# Altium footprint library inductor.PcbLib: 6 footprints
Each footprint in its own frame and in the unit in brackets; x right, y up, seen from the top. Pads: shape width x height; smd on the part's side, far side on the other; paste and mask are expansions set on the pad; w line width, h text height; cw(c..) or ccw(c..) is an arc to the next point about the centre after c.
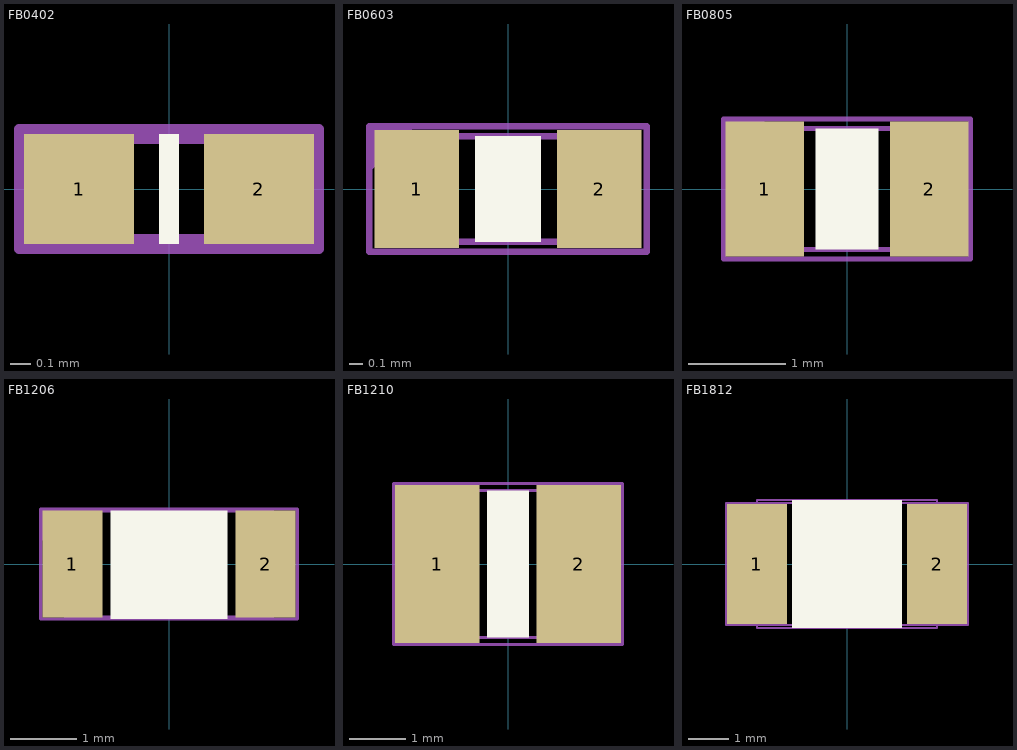
[diagram p0: the footprints below, top view; thin cyan lines are the x and y axes]

## FB0402 [mm]
pads (2):
  rect 0.55x0.55 smd: 1(-0.45,0) 2(0.45,0)
Top Overlay:
  rectangle: -0.05,-0.275 0.05,0.275
Top 3D Body:
  lines w0.05: -0.5,-0.25 -0.5,0.25 0.5,0.25 0.5,-0.25 -0.5,-0.25
Top Courtyard:
  region: -0.75,0.3 -0.45,0.3 -0.75,0
  lines w0.05: -0.75,-0.3 -0.75,0.3 0.75,0.3 0.75,-0.3 -0.75,-0.3
Top Designator:
  text ".Designator" at -0.675,-0.15 h0.44
3D body: height 0.65, standoff 0, extent -0.5,-0.25 -0.25,0.25
3D body: height 0.65, standoff 0, extent 0.25,-0.25 0.5,0.25
3D body: height 0.65, standoff 0, extent -0.25,-0.25 0.25,0.25

## FB0603 [mm]
pads (2):
  rect 0.64x0.89 smd: 1(-0.69,0) 2(0.69,0)
Top Overlay:
  rectangle: -0.25,-0.4 0.25,0.4
Top 3D Body:
  lines w0.05: -0.8,-0.4 0.8,-0.4 0.8,0.4 -0.8,0.4 -0.8,-0.4
Top Courtyard:
  region: -1.05,0.475 -0.7,0.475 -1.05,0.125
  lines w0.05: -1.05,-0.475 1.05,-0.475 1.05,0.475 -1.05,0.475 -1.05,-0.475
Top Designator:
  text ".Designator" at -0.9,-0.175 h0.51
3D body: height 0.95, standoff 0, extent -0.5,-0.4 0.5,0.4
3D body: height 0.95, standoff 0, extent 0.5,-0.4 0.8,0.4
3D body: height 0.95, standoff 0, extent -0.8,-0.4 -0.5,0.4

## FB0805 [mm]
pads (2):
  rect 0.81x1.4 smd: 1(-0.85,0) 2(0.85,0)
Top Overlay:
  rectangle: -0.325,-0.625 0.325,0.625
Top 3D Body:
  lines w0.05: -1,-0.625 -1,0.625 1,0.625 1,-0.625 -1,-0.625
Top Courtyard:
  region: -1.275,0.725 -0.825,0.725 -1.275,0.275
  lines w0.05: -1.275,-0.725 -1.275,0.725 1.275,0.725 1.275,-0.725 -1.275,-0.725
Top Designator:
  text ".Designator" at -1.125,-0.225 h0.65
3D body: height 1.1, standoff 0, extent -1,-0.625 -0.6,0.625
3D body: height 1.1, standoff 0, extent 0.6,-0.625 1,0.625
3D body: height 1.1, standoff 0, extent -0.6,-0.625 0.6,0.625

## FB1206 [mm]
pads (2):
  rect 0.9x1.6 smd: 1(-1.45,0) 2(1.45,0)
Top Overlay:
  rectangle: -0.875,-0.825 0.875,0.8
Top 3D Body:
  lines w0.05: -1.55,-0.8 -1.55,0.8 1.55,0.8 1.55,-0.8 -1.55,-0.8
Top Courtyard:
  region: -1.925,0.825 -1.425,0.825 -1.925,0.325
  lines w0.05: -1.925,-0.825 -1.925,0.825 1.925,0.825 1.925,-0.825 -1.925,-0.825
Top Designator:
  text ".Designator" at -1.75,-0.25 h0.72
3D body: height 1.3, standoff 0, extent -1.55,-0.8 -1.1,0.8
3D body: height 1.3, standoff 0, extent 1.1,-0.8 1.55,0.8
3D body: height 1.3, standoff 0, extent -1.1,-0.8 1.1,0.8

## FB1210 [mm]
pads (2):
  rect 1.5x2.8 smd: 1(-1.25,0) 2(1.25,0)
Top Overlay:
  rectangle: -0.375,-1.3 0.375,1.3
Top 3D Body:
  lines w0.05: -1.55,-1.3 1.55,-1.3 1.55,1.3 -1.55,1.3 -1.55,-1.3
Top Courtyard:
  region: -2.025,1.425 -1.2,1.425 -2.025,0.6
  lines w0.05: -2.025,-1.425 2.025,-1.425 2.025,1.425 -2.025,1.425 -2.025,-1.425
Top Designator:
  text ".Designator" at -1.775,-0.425 h1.2
3D body: height 1.5, standoff 0, extent -1.05,-1.3 1.05,1.3
3D body: height 1.5, standoff 0, extent 1.05,-1.3 1.55,1.3
3D body: height 1.5, standoff 0, extent -1.55,-1.3 -1.05,1.3

## FB1812 [mm]
pads (2):
  rect 1.5x3 smd: 1(-2.25,0) 2(2.25,0)
Top Overlay:
  rectangle: -1.375,-1.6 1.375,1.6
Top 3D Body:
  lines w0.05: -2.25,-1.6 2.25,-1.6 2.25,1.6 -2.25,1.6 -2.25,-1.6
Top Courtyard:
  lines w0.05: -3.025,-1.525 3.025,-1.525 3.025,1.525 -3.025,1.525 -3.025,-1.525
Top Designator:
  text ".Designator" at -2.775,-0.4 h1.2
3D body: height 1.75, standoff 0, extent -1.95,-1.6 1.95,1.6
3D body: height 1.75, standoff 0, extent 1.95,-1.6 2.25,1.6
3D body: height 1.75, standoff 0, extent -2.25,-1.6 -1.95,1.6